# Altium integrated library Linear Technology PMIC-Switching Reg LTC1174-LTC3901.IntLib: 2647 symbols (part 146 of 310)
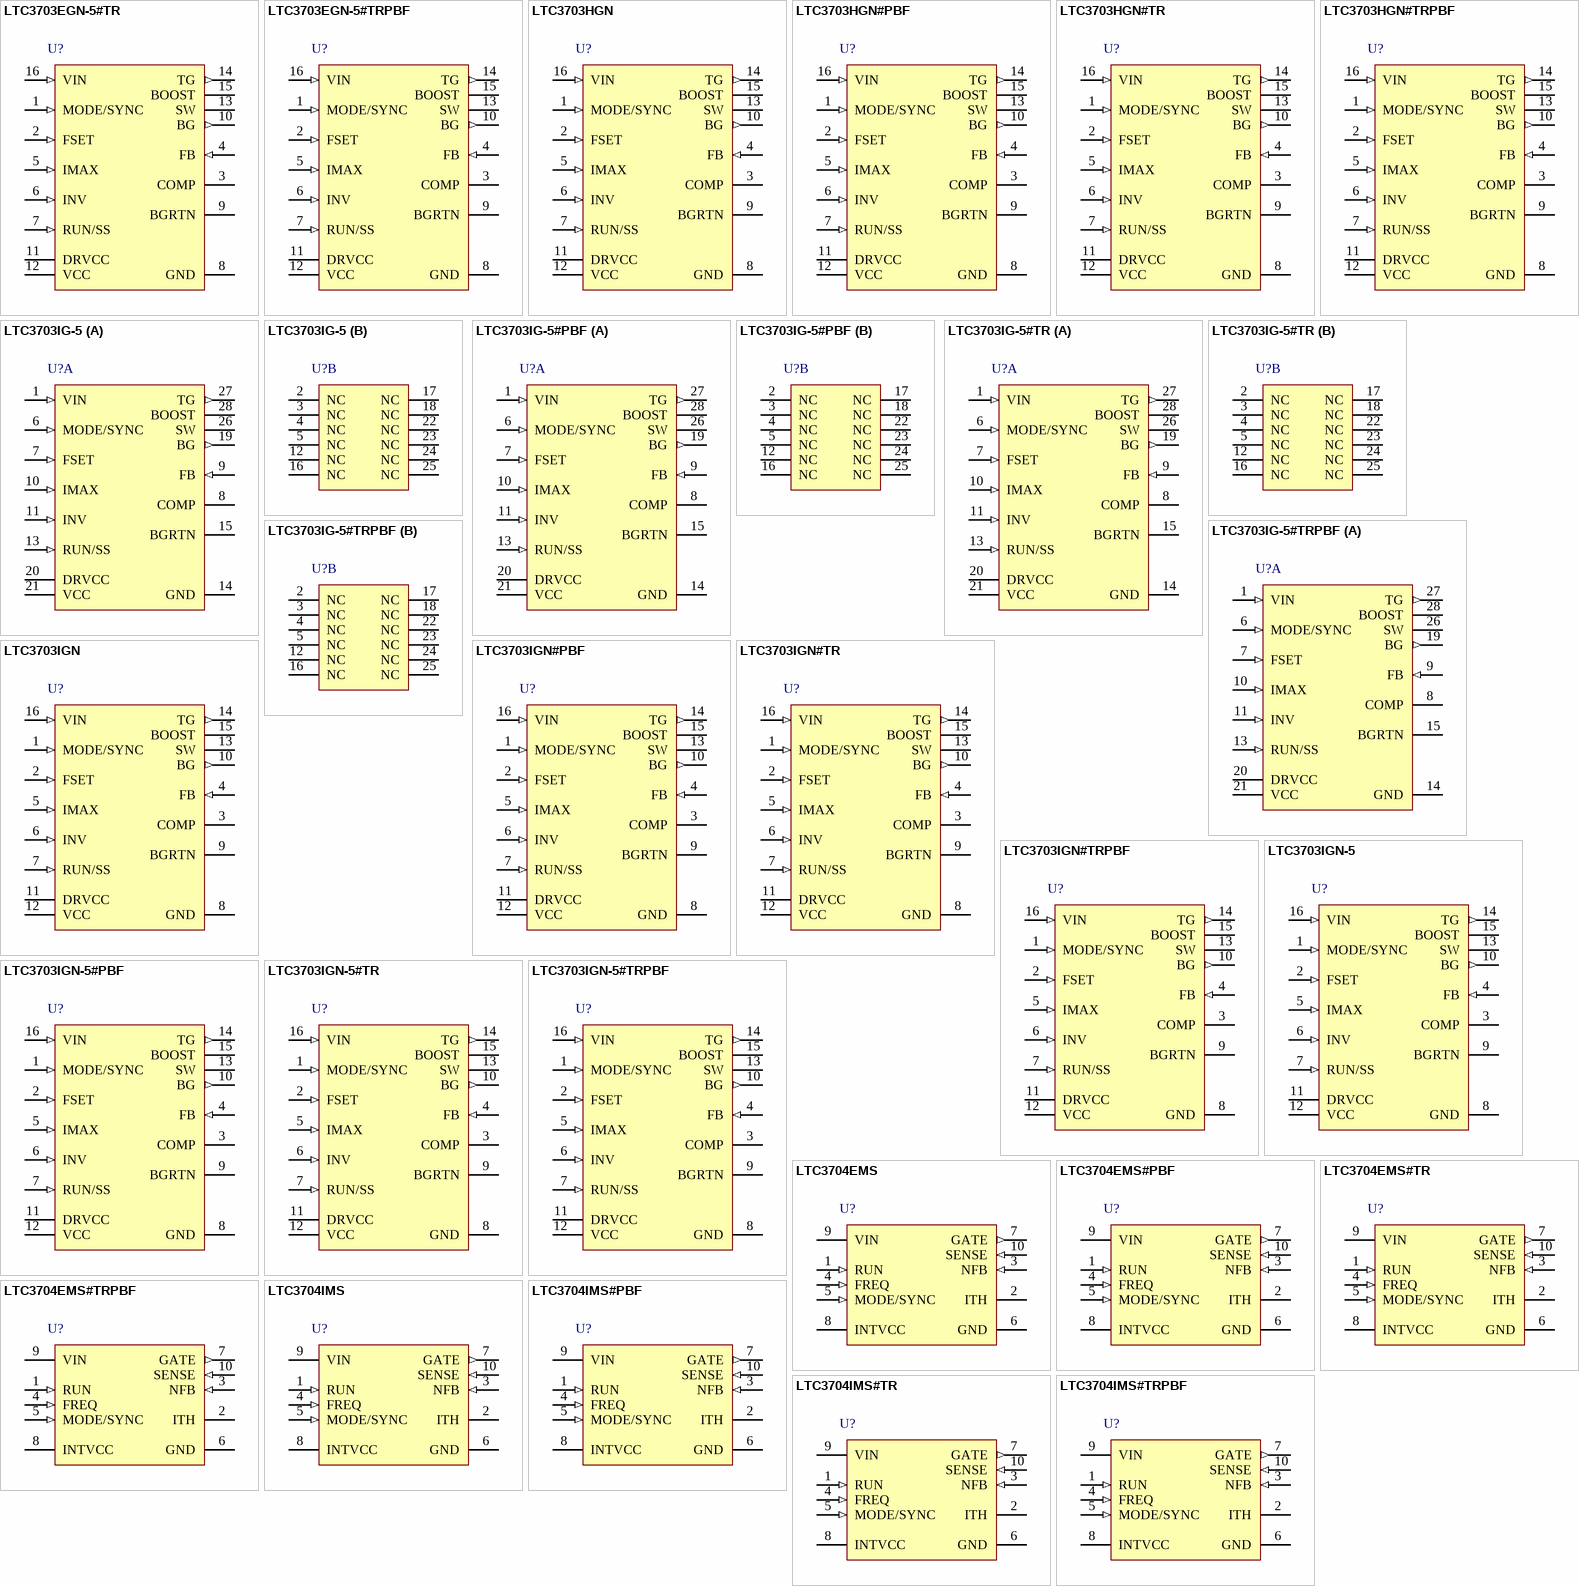
[diagram p198: symbols LTC3703EGN-5#TR to LTC3704IMS#TRPBF]

## LTC3704IMS#PBF
designator U?
Positive to Negative Converter, 10-pin SOP (MS-10), -40 to 125 degC, Pb-Free; Manufacturer: Linear Technology; PartNumber: LTC3704IMS#PBF; Number of Outputs: 1; PackageReference: MS-10; PackageDescription: 10-Pin Plastic MSOP, Body 3 x 3 mm, Pitch 0.5 mm; Supplier 1: Digi-Key; Supplier Part Number 1: LTC3704IMS#PBF-ND; RoHS: TRUE
footprint LT-MS-10_N (SOP, 10-Leads, Body 3.1x3.1mm, Pitch 0.5mm, IPC Medium Density)
footprint LT-MS-10_L (SOP, 10-Leads, Body 3.1x3.1mm, Pitch 0.5mm, IPC High Density)
footprint LT-MS-10_M (SOP, 10-Leads, Body 3.1x3.1mm, Pitch 0.5mm, IPC Low Density)
pins: 1 RUN (in) "The RUN pin provides the user with an accurate means for sensing the input voltage and programming the start-up threshold for the converter. The falling RUN pin threshold is nominally 1.248V and the comparator has 100mV of (See Datasheet)", 2 ITH "Error Amplifier Compensation Pin. The current comparator input threshold increases with this control voltage. Nominal voltage range for this pin is 0V to 1.40V.", 3 NFB (in) "Receives the feedback voltage from the external resistor divider across the output. Nominal voltage for this pin in regulation is -1.230V.", 4 FREQ (in) "A resistor from the FREQ pin to ground programs the operating frequency of the chip. The nominal voltage at the FREQ pin is 0.62V.", 5 MODE/SYNC (in) "This input controls the operating mode of the converter and allows for synchronizing the operating frequency to an external clock. If the MODE/SYNC pin is connected to ground, Burst Mode operation is enabled. If the (See Datasheet)", 6 GND (power) "Ground Pin.", 7 GATE (out) "Gate Driver Output.", 8 INTVCC (power) "The Internal 5.20V Regulator Output. The gate driver and control circuits are powered from this voltage. Decouple this pin locally to the IC ground with a minimum of 4.7uF low ESR tantalum or ceramic capacitor.", 9 VIN (power) "Main Supply Pin. Must be closely decoupled to ground.", 10 SENSE (in) "The Current Sense Input for the Control Loop. Connect this pin to the drain of the power MOSFET for VDS sensing and highest efficiency. Alternatively, the SENSE pin may be connected to a resistor in the source of the power (See Datasheet)"

## LTC3704IMS#TR
designator U?
Positive to Negative Converter, 10-pin SOP (MS-10), -40 to 125 degC, Tape and Reel; Manufacturer: Linear Technology; PartNumber: LTC3704IMS#TR; Number of Outputs: 1; PackageReference: MS-10; PackageDescription: 10-Pin Plastic MSOP, Body 3 x 3 mm, Pitch 0.5 mm; Supplier 1: Newark; Supplier Part Number 1: 56M8078; RoHS: FALSE
footprint LT-MS-10_N (SOP, 10-Leads, Body 3.1x3.1mm, Pitch 0.5mm, IPC Medium Density)
footprint LT-MS-10_L (SOP, 10-Leads, Body 3.1x3.1mm, Pitch 0.5mm, IPC High Density)
footprint LT-MS-10_M (SOP, 10-Leads, Body 3.1x3.1mm, Pitch 0.5mm, IPC Low Density)
pins: 1 RUN (in) "The RUN pin provides the user with an accurate means for sensing the input voltage and programming the start-up threshold for the converter. The falling RUN pin threshold is nominally 1.248V and the comparator has 100mV of (See Datasheet)", 2 ITH "Error Amplifier Compensation Pin. The current comparator input threshold increases with this control voltage. Nominal voltage range for this pin is 0V to 1.40V.", 3 NFB (in) "Receives the feedback voltage from the external resistor divider across the output. Nominal voltage for this pin in regulation is -1.230V.", 4 FREQ (in) "A resistor from the FREQ pin to ground programs the operating frequency of the chip. The nominal voltage at the FREQ pin is 0.62V.", 5 MODE/SYNC (in) "This input controls the operating mode of the converter and allows for synchronizing the operating frequency to an external clock. If the MODE/SYNC pin is connected to ground, Burst Mode operation is enabled. If the (See Datasheet)", 6 GND (power) "Ground Pin.", 7 GATE (out) "Gate Driver Output.", 8 INTVCC (power) "The Internal 5.20V Regulator Output. The gate driver and control circuits are powered from this voltage. Decouple this pin locally to the IC ground with a minimum of 4.7uF low ESR tantalum or ceramic capacitor.", 9 VIN (power) "Main Supply Pin. Must be closely decoupled to ground.", 10 SENSE (in) "The Current Sense Input for the Control Loop. Connect this pin to the drain of the power MOSFET for VDS sensing and highest efficiency. Alternatively, the SENSE pin may be connected to a resistor in the source of the power (See Datasheet)"

## LTC3704IMS#TRPBF
designator U?
Positive to Negative Converter, 10-pin SOP (MS-10), -40 to 125 degC, Pb-Free, Tape and Reel; Manufacturer: Linear Technology; PartNumber: LTC3704IMS#TRPBF; Number of Outputs: 1; PackageReference: MS-10; PackageDescription: 10-Pin Plastic MSOP, Body 3 x 3 mm, Pitch 0.5 mm; Supplier 1: Digi-Key; Supplier Part Number 1: LTC3704IMS#TRPBF-ND; RoHS: TRUE
footprint LT-MS-10_N (SOP, 10-Leads, Body 3.1x3.1mm, Pitch 0.5mm, IPC Medium Density)
footprint LT-MS-10_L (SOP, 10-Leads, Body 3.1x3.1mm, Pitch 0.5mm, IPC High Density)
footprint LT-MS-10_M (SOP, 10-Leads, Body 3.1x3.1mm, Pitch 0.5mm, IPC Low Density)
pins: 1 RUN (in) "The RUN pin provides the user with an accurate means for sensing the input voltage and programming the start-up threshold for the converter. The falling RUN pin threshold is nominally 1.248V and the comparator has 100mV of (See Datasheet)", 2 ITH "Error Amplifier Compensation Pin. The current comparator input threshold increases with this control voltage. Nominal voltage range for this pin is 0V to 1.40V.", 3 NFB (in) "Receives the feedback voltage from the external resistor divider across the output. Nominal voltage for this pin in regulation is -1.230V.", 4 FREQ (in) "A resistor from the FREQ pin to ground programs the operating frequency of the chip. The nominal voltage at the FREQ pin is 0.62V.", 5 MODE/SYNC (in) "This input controls the operating mode of the converter and allows for synchronizing the operating frequency to an external clock. If the MODE/SYNC pin is connected to ground, Burst Mode operation is enabled. If the (See Datasheet)", 6 GND (power) "Ground Pin.", 7 GATE (out) "Gate Driver Output.", 8 INTVCC (power) "The Internal 5.20V Regulator Output. The gate driver and control circuits are powered from this voltage. Decouple this pin locally to the IC ground with a minimum of 4.7uF low ESR tantalum or ceramic capacitor.", 9 VIN (power) "Main Supply Pin. Must be closely decoupled to ground.", 10 SENSE (in) "The Current Sense Input for the Control Loop. Connect this pin to the drain of the power MOSFET for VDS sensing and highest efficiency. Alternatively, the SENSE pin may be connected to a resistor in the source of the power (See Datasheet)"

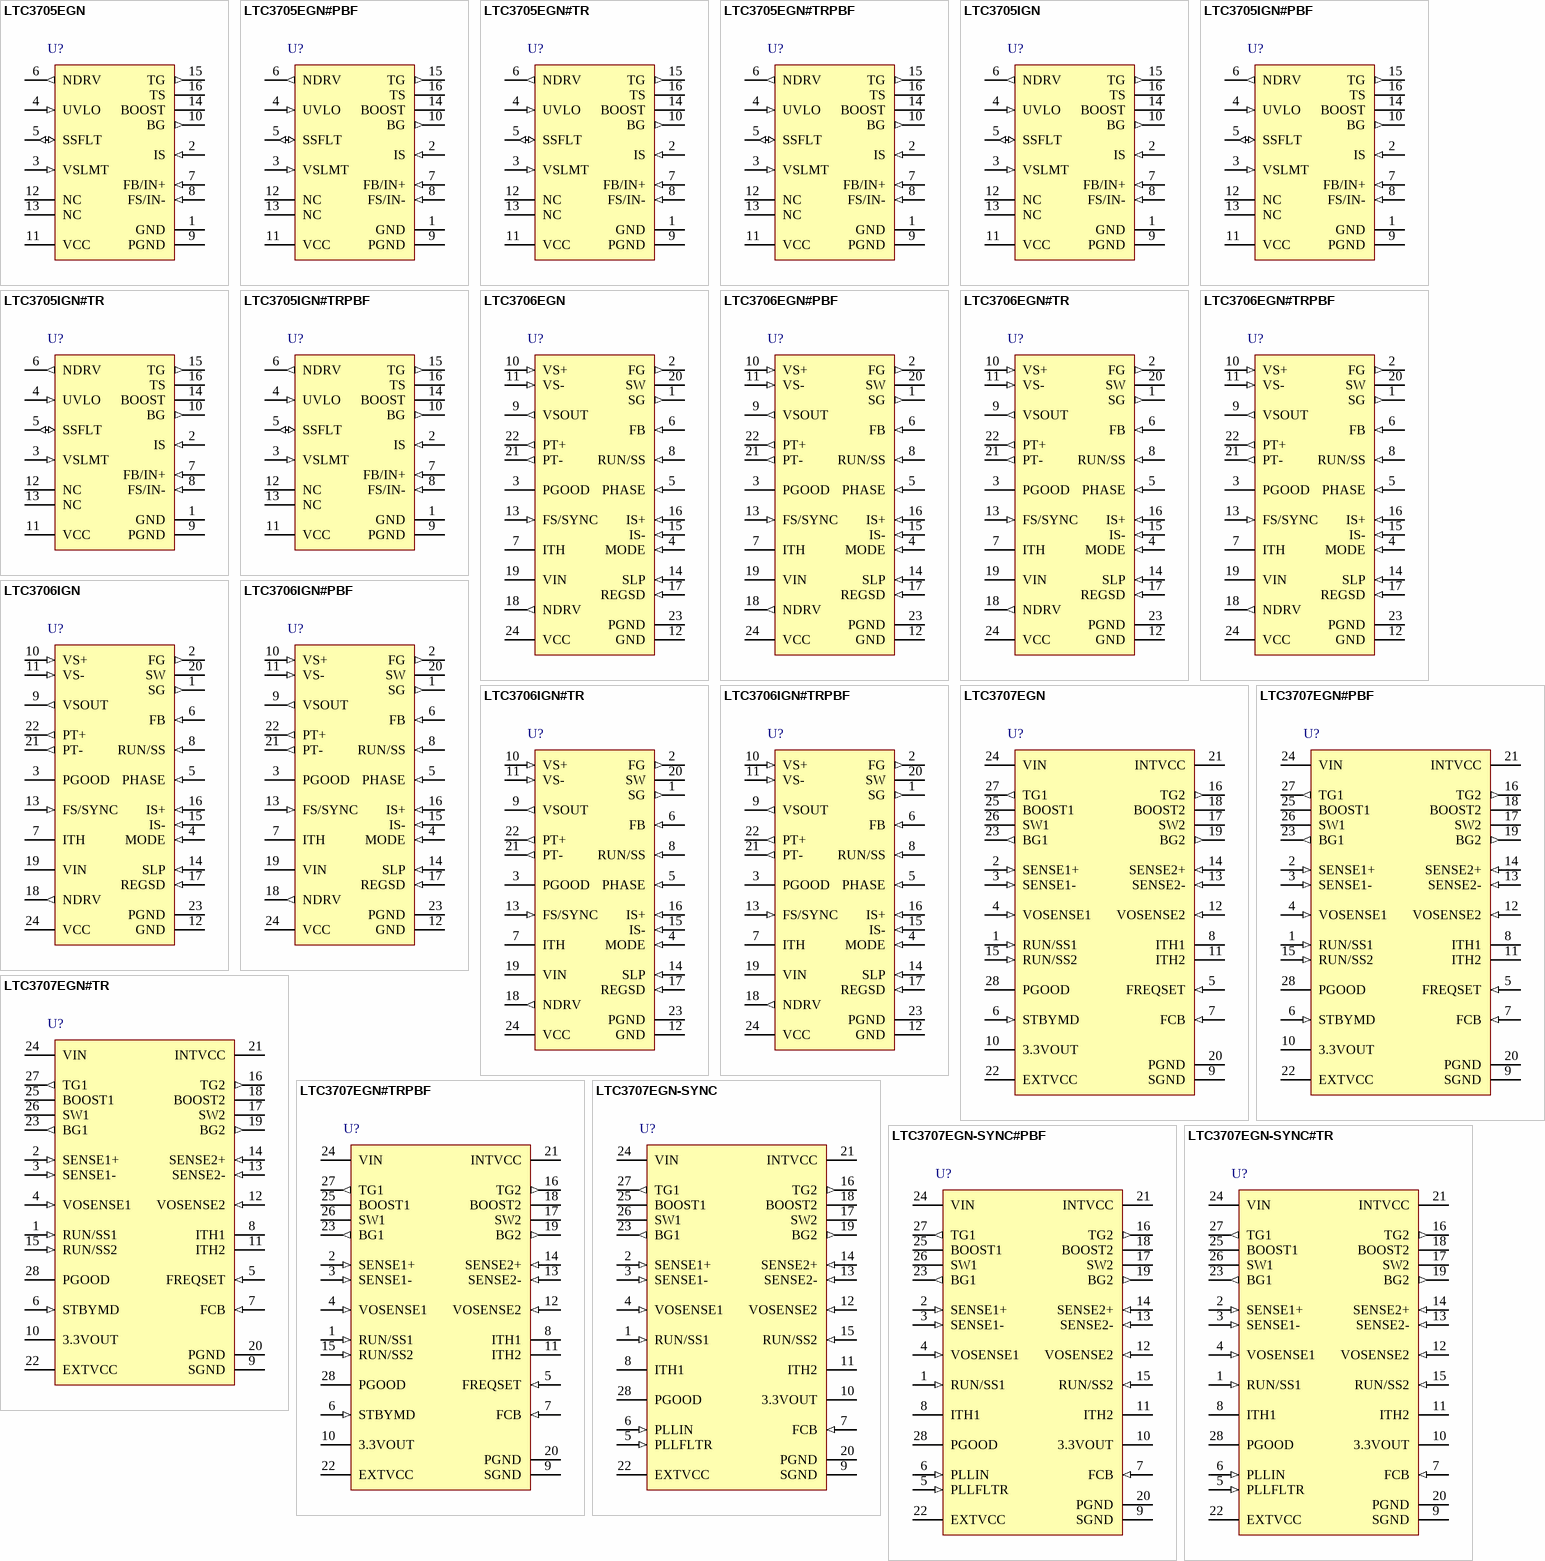
[diagram p52: symbols LTC3705EGN to LTC3707EGN-SYNC#TR]

## LTC3705EGN
designator U?
2-Switch Forward Controller and Gate Driver, 16-pin SOP (GN-16), -40 to 85 degC; Manufacturer: Linear Technology; PartNumber: LTC3705EGN; Number of Outputs: 1; PackageReference: GN-16; PackageDescription: 16-Pin Plastic SSOP, Body 4.9 x 3.9 mm, Pitch 0.635 mm; RoHS: FALSE
footprint LT-GN-16_N (SOP, 16-Leads, Body 5x4mm, Pitch 0.635mm, IPC Medium Density)
footprint LT-GN-16_L (SOP, 16-Leads, Body 5x4mm, Pitch 0.635mm, IPC High Density)
footprint LT-GN-16_M (SOP, 16-Leads, Body 5x4mm, Pitch 0.635mm, IPC Low Density)
pins: 1 GND (power) "Signal Ground.", 2 IS (in) "Input to the Overcurrent Comparator. Connect to the positive terminal of a current-sense resistor in series with the source of the ground-referenced bottom MOSFET.", 3 VSLMT (in) "Volt-Second Limit. Form an R-C integrator by connecting a resistor from VIN to VSLMT and a capacitor from VSLMT to ground. The gate drives are turned off when the voltage on the VSLMT pin exceeds 1.25V.", 4 UVLO (in) "Undervoltage Lockout. Connect to a resistive voltage divider to monitor input voltage VIN. Enables converter operation for VUVLO > 1.242V. Hysteresis is a fixed 16mV hysteresis voltage with a 4.9uA hysteresis current that (See Datasheet)", 5 SSFLT (io) "Combination Soft-Start and Fault Indicator. A capacitor to GND sets the duty cycle ramp-up rate during start-up. To indicate a fault, the SSFLT pin is momentarily pulled up to within 1.3V of VCC.", 6 NDRV (out) "Drive for the External NMOS of the Linear Regulator. Connect to the gate of the NMOS and connect a pull up resistor to the input voltage VIN. Optionally, to create a trickle charger omit the NMOS device and connect NDRV to (See Datasheet)", 7 FB/IN+ (in) "This pin has several functions. The two terminals of one pulse transformer winding are connected to the FB/IN+ and FS/IN- pins. The other pulse transformer winding is connected to the LTC3706. The LTC3705 automatically (See Datasheet)", 8 FS/IN- (in) "This pin has several functions. Place a resistor from this pin to GND to set the oscillator frequency. For secondary-side control with the LTC3706, connect one winding of the pulse transformer for operation as described for (See Datasheet)", 9 PGND (power) "Supply Return for the Bottom Gate Driver and the On-Chip Bridge Rectifier.", 10 BG (out) "Bottom Gate Driver. Connect to the gate of the “low side” external MOSFET.", 11 VCC (power) "Main VCC Power for All Driver and Control Circuitry.", 12 NC "Voltage Isolation Pins. No connection. Provided to allow adequate clearance between high-voltage pins (BOOST, TG, and TS) and the remainder of the pins.", 13 NC "Voltage Isolation Pins. No connection. Provided to allow adequate clearance between high-voltage pins (BOOST, TG, and TS) and the remainder of the pins.", 14 BOOST "Top Gate Driver Supply. Connect to VCC with a diode to supply power to the “high side” external MOSFET and bypass with a capacitor to TS.", 15 TG (out) "Top Gate Driver. Connect to the gate of the “high side” external MOSFET.", 16 TS (power) "Supply Return for the Top Gate Driver. Connect to the source of the “high side” external MOSFET."

## LTC3705EGN#PBF
designator U?
2-Switch Forward Controller and Gate Driver, 16-pin SOP (GN-16), -40 to 85 degC, Pb-Free; Manufacturer: Linear Technology; PartNumber: LTC3705EGN#PBF; Number of Outputs: 1; PackageReference: GN-16; PackageDescription: 16-Pin Plastic SSOP, Body 4.9 x 3.9 mm, Pitch 0.635 mm; Supplier 1: Digi-Key; Supplier Part Number 1: LTC3705EGN#PBF-ND; RoHS: TRUE
footprint LT-GN-16_N (SOP, 16-Leads, Body 5x4mm, Pitch 0.635mm, IPC Medium Density)
footprint LT-GN-16_L (SOP, 16-Leads, Body 5x4mm, Pitch 0.635mm, IPC High Density)
footprint LT-GN-16_M (SOP, 16-Leads, Body 5x4mm, Pitch 0.635mm, IPC Low Density)
pins: 1 GND (power) "Signal Ground.", 2 IS (in) "Input to the Overcurrent Comparator. Connect to the positive terminal of a current-sense resistor in series with the source of the ground-referenced bottom MOSFET.", 3 VSLMT (in) "Volt-Second Limit. Form an R-C integrator by connecting a resistor from VIN to VSLMT and a capacitor from VSLMT to ground. The gate drives are turned off when the voltage on the VSLMT pin exceeds 1.25V.", 4 UVLO (in) "Undervoltage Lockout. Connect to a resistive voltage divider to monitor input voltage VIN. Enables converter operation for VUVLO > 1.242V. Hysteresis is a fixed 16mV hysteresis voltage with a 4.9uA hysteresis current that (See Datasheet)", 5 SSFLT (io) "Combination Soft-Start and Fault Indicator. A capacitor to GND sets the duty cycle ramp-up rate during start-up. To indicate a fault, the SSFLT pin is momentarily pulled up to within 1.3V of VCC.", 6 NDRV (out) "Drive for the External NMOS of the Linear Regulator. Connect to the gate of the NMOS and connect a pull up resistor to the input voltage VIN. Optionally, to create a trickle charger omit the NMOS device and connect NDRV to (See Datasheet)", 7 FB/IN+ (in) "This pin has several functions. The two terminals of one pulse transformer winding are connected to the FB/IN+ and FS/IN- pins. The other pulse transformer winding is connected to the LTC3706. The LTC3705 automatically (See Datasheet)", 8 FS/IN- (in) "This pin has several functions. Place a resistor from this pin to GND to set the oscillator frequency. For secondary-side control with the LTC3706, connect one winding of the pulse transformer for operation as described for (See Datasheet)", 9 PGND (power) "Supply Return for the Bottom Gate Driver and the On-Chip Bridge Rectifier.", 10 BG (out) "Bottom Gate Driver. Connect to the gate of the “low side” external MOSFET.", 11 VCC (power) "Main VCC Power for All Driver and Control Circuitry.", 12 NC "Voltage Isolation Pins. No connection. Provided to allow adequate clearance between high-voltage pins (BOOST, TG, and TS) and the remainder of the pins.", 13 NC "Voltage Isolation Pins. No connection. Provided to allow adequate clearance between high-voltage pins (BOOST, TG, and TS) and the remainder of the pins.", 14 BOOST "Top Gate Driver Supply. Connect to VCC with a diode to supply power to the “high side” external MOSFET and bypass with a capacitor to TS.", 15 TG (out) "Top Gate Driver. Connect to the gate of the “high side” external MOSFET.", 16 TS (power) "Supply Return for the Top Gate Driver. Connect to the source of the “high side” external MOSFET."

## LTC3705EGN#TR
designator U?
2-Switch Forward Controller and Gate Driver, 16-pin SOP (GN-16), -40 to 85 degC, Tape and Reel; Manufacturer: Linear Technology; PartNumber: LTC3705EGN#TR; Number of Outputs: 1; PackageReference: GN-16; PackageDescription: 16-Pin Plastic SSOP, Body 4.9 x 3.9 mm, Pitch 0.635 mm; RoHS: FALSE
footprint LT-GN-16_N (SOP, 16-Leads, Body 5x4mm, Pitch 0.635mm, IPC Medium Density)
footprint LT-GN-16_L (SOP, 16-Leads, Body 5x4mm, Pitch 0.635mm, IPC High Density)
footprint LT-GN-16_M (SOP, 16-Leads, Body 5x4mm, Pitch 0.635mm, IPC Low Density)
pins: 1 GND (power) "Signal Ground.", 2 IS (in) "Input to the Overcurrent Comparator. Connect to the positive terminal of a current-sense resistor in series with the source of the ground-referenced bottom MOSFET.", 3 VSLMT (in) "Volt-Second Limit. Form an R-C integrator by connecting a resistor from VIN to VSLMT and a capacitor from VSLMT to ground. The gate drives are turned off when the voltage on the VSLMT pin exceeds 1.25V.", 4 UVLO (in) "Undervoltage Lockout. Connect to a resistive voltage divider to monitor input voltage VIN. Enables converter operation for VUVLO > 1.242V. Hysteresis is a fixed 16mV hysteresis voltage with a 4.9uA hysteresis current that (See Datasheet)", 5 SSFLT (io) "Combination Soft-Start and Fault Indicator. A capacitor to GND sets the duty cycle ramp-up rate during start-up. To indicate a fault, the SSFLT pin is momentarily pulled up to within 1.3V of VCC.", 6 NDRV (out) "Drive for the External NMOS of the Linear Regulator. Connect to the gate of the NMOS and connect a pull up resistor to the input voltage VIN. Optionally, to create a trickle charger omit the NMOS device and connect NDRV to (See Datasheet)", 7 FB/IN+ (in) "This pin has several functions. The two terminals of one pulse transformer winding are connected to the FB/IN+ and FS/IN- pins. The other pulse transformer winding is connected to the LTC3706. The LTC3705 automatically (See Datasheet)", 8 FS/IN- (in) "This pin has several functions. Place a resistor from this pin to GND to set the oscillator frequency. For secondary-side control with the LTC3706, connect one winding of the pulse transformer for operation as described for (See Datasheet)", 9 PGND (power) "Supply Return for the Bottom Gate Driver and the On-Chip Bridge Rectifier.", 10 BG (out) "Bottom Gate Driver. Connect to the gate of the “low side” external MOSFET.", 11 VCC (power) "Main VCC Power for All Driver and Control Circuitry.", 12 NC "Voltage Isolation Pins. No connection. Provided to allow adequate clearance between high-voltage pins (BOOST, TG, and TS) and the remainder of the pins.", 13 NC "Voltage Isolation Pins. No connection. Provided to allow adequate clearance between high-voltage pins (BOOST, TG, and TS) and the remainder of the pins.", 14 BOOST "Top Gate Driver Supply. Connect to VCC with a diode to supply power to the “high side” external MOSFET and bypass with a capacitor to TS.", 15 TG (out) "Top Gate Driver. Connect to the gate of the “high side” external MOSFET.", 16 TS (power) "Supply Return for the Top Gate Driver. Connect to the source of the “high side” external MOSFET."

## LTC3705EGN#TRPBF
designator U?
2-Switch Forward Controller and Gate Driver, 16-pin SOP (GN-16), -40 to 85 degC, Pb-Free, Tape and Reel; Manufacturer: Linear Technology; PartNumber: LTC3705EGN#TRPBF; Number of Outputs: 1; PackageReference: GN-16; PackageDescription: 16-Pin Plastic SSOP, Body 4.9 x 3.9 mm, Pitch 0.635 mm; Supplier 1: Digi-Key; Supplier Part Number 1: LTC3705EGN#TRPBF-ND; RoHS: TRUE
footprint LT-GN-16_N (SOP, 16-Leads, Body 5x4mm, Pitch 0.635mm, IPC Medium Density)
footprint LT-GN-16_L (SOP, 16-Leads, Body 5x4mm, Pitch 0.635mm, IPC High Density)
footprint LT-GN-16_M (SOP, 16-Leads, Body 5x4mm, Pitch 0.635mm, IPC Low Density)
pins: 1 GND (power) "Signal Ground.", 2 IS (in) "Input to the Overcurrent Comparator. Connect to the positive terminal of a current-sense resistor in series with the source of the ground-referenced bottom MOSFET.", 3 VSLMT (in) "Volt-Second Limit. Form an R-C integrator by connecting a resistor from VIN to VSLMT and a capacitor from VSLMT to ground. The gate drives are turned off when the voltage on the VSLMT pin exceeds 1.25V.", 4 UVLO (in) "Undervoltage Lockout. Connect to a resistive voltage divider to monitor input voltage VIN. Enables converter operation for VUVLO > 1.242V. Hysteresis is a fixed 16mV hysteresis voltage with a 4.9uA hysteresis current that (See Datasheet)", 5 SSFLT (io) "Combination Soft-Start and Fault Indicator. A capacitor to GND sets the duty cycle ramp-up rate during start-up. To indicate a fault, the SSFLT pin is momentarily pulled up to within 1.3V of VCC.", 6 NDRV (out) "Drive for the External NMOS of the Linear Regulator. Connect to the gate of the NMOS and connect a pull up resistor to the input voltage VIN. Optionally, to create a trickle charger omit the NMOS device and connect NDRV to (See Datasheet)", 7 FB/IN+ (in) "This pin has several functions. The two terminals of one pulse transformer winding are connected to the FB/IN+ and FS/IN- pins. The other pulse transformer winding is connected to the LTC3706. The LTC3705 automatically (See Datasheet)", 8 FS/IN- (in) "This pin has several functions. Place a resistor from this pin to GND to set the oscillator frequency. For secondary-side control with the LTC3706, connect one winding of the pulse transformer for operation as described for (See Datasheet)", 9 PGND (power) "Supply Return for the Bottom Gate Driver and the On-Chip Bridge Rectifier.", 10 BG (out) "Bottom Gate Driver. Connect to the gate of the “low side” external MOSFET.", 11 VCC (power) "Main VCC Power for All Driver and Control Circuitry.", 12 NC "Voltage Isolation Pins. No connection. Provided to allow adequate clearance between high-voltage pins (BOOST, TG, and TS) and the remainder of the pins.", 13 NC "Voltage Isolation Pins. No connection. Provided to allow adequate clearance between high-voltage pins (BOOST, TG, and TS) and the remainder of the pins.", 14 BOOST "Top Gate Driver Supply. Connect to VCC with a diode to supply power to the “high side” external MOSFET and bypass with a capacitor to TS.", 15 TG (out) "Top Gate Driver. Connect to the gate of the “high side” external MOSFET.", 16 TS (power) "Supply Return for the Top Gate Driver. Connect to the source of the “high side” external MOSFET."

## LTC3705IGN
designator U?
2-Switch Forward Controller and Gate Driver, 16-pin SOP (GN-16), -40 to 85 degC; Manufacturer: Linear Technology; PartNumber: LTC3705IGN; Number of Outputs: 1; PackageReference: GN-16; PackageDescription: 16-Pin Plastic SSOP, Body 4.9 x 3.9 mm, Pitch 0.635 mm; Supplier 1: Newark; Supplier Part Number 1: 56M8084; RoHS: FALSE
footprint LT-GN-16_N (SOP, 16-Leads, Body 5x4mm, Pitch 0.635mm, IPC Medium Density)
footprint LT-GN-16_L (SOP, 16-Leads, Body 5x4mm, Pitch 0.635mm, IPC High Density)
footprint LT-GN-16_M (SOP, 16-Leads, Body 5x4mm, Pitch 0.635mm, IPC Low Density)
pins: 1 GND (power) "Signal Ground.", 2 IS (in) "Input to the Overcurrent Comparator. Connect to the positive terminal of a current-sense resistor in series with the source of the ground-referenced bottom MOSFET.", 3 VSLMT (in) "Volt-Second Limit. Form an R-C integrator by connecting a resistor from VIN to VSLMT and a capacitor from VSLMT to ground. The gate drives are turned off when the voltage on the VSLMT pin exceeds 1.25V.", 4 UVLO (in) "Undervoltage Lockout. Connect to a resistive voltage divider to monitor input voltage VIN. Enables converter operation for VUVLO > 1.242V. Hysteresis is a fixed 16mV hysteresis voltage with a 4.9uA hysteresis current that (See Datasheet)", 5 SSFLT (io) "Combination Soft-Start and Fault Indicator. A capacitor to GND sets the duty cycle ramp-up rate during start-up. To indicate a fault, the SSFLT pin is momentarily pulled up to within 1.3V of VCC.", 6 NDRV (out) "Drive for the External NMOS of the Linear Regulator. Connect to the gate of the NMOS and connect a pull up resistor to the input voltage VIN. Optionally, to create a trickle charger omit the NMOS device and connect NDRV to (See Datasheet)", 7 FB/IN+ (in) "This pin has several functions. The two terminals of one pulse transformer winding are connected to the FB/IN+ and FS/IN- pins. The other pulse transformer winding is connected to the LTC3706. The LTC3705 automatically (See Datasheet)", 8 FS/IN- (in) "This pin has several functions. Place a resistor from this pin to GND to set the oscillator frequency. For secondary-side control with the LTC3706, connect one winding of the pulse transformer for operation as described for (See Datasheet)", 9 PGND (power) "Supply Return for the Bottom Gate Driver and the On-Chip Bridge Rectifier.", 10 BG (out) "Bottom Gate Driver. Connect to the gate of the “low side” external MOSFET.", 11 VCC (power) "Main VCC Power for All Driver and Control Circuitry.", 12 NC "Voltage Isolation Pins. No connection. Provided to allow adequate clearance between high-voltage pins (BOOST, TG, and TS) and the remainder of the pins.", 13 NC "Voltage Isolation Pins. No connection. Provided to allow adequate clearance between high-voltage pins (BOOST, TG, and TS) and the remainder of the pins.", 14 BOOST "Top Gate Driver Supply. Connect to VCC with a diode to supply power to the “high side” external MOSFET and bypass with a capacitor to TS.", 15 TG (out) "Top Gate Driver. Connect to the gate of the “high side” external MOSFET.", 16 TS (power) "Supply Return for the Top Gate Driver. Connect to the source of the “high side” external MOSFET."

## LTC3705IGN#PBF
designator U?
2-Switch Forward Controller and Gate Driver, 16-pin SOP (GN-16), -40 to 85 degC, Pb-Free; Manufacturer: Linear Technology; PartNumber: LTC3705IGN#PBF; Number of Outputs: 1; PackageReference: GN-16; PackageDescription: 16-Pin Plastic SSOP, Body 4.9 x 3.9 mm, Pitch 0.635 mm; Supplier 1: Digi-Key; Supplier Part Number 1: LTC3705IGN#PBF-ND; RoHS: TRUE
footprint LT-GN-16_N (SOP, 16-Leads, Body 5x4mm, Pitch 0.635mm, IPC Medium Density)
footprint LT-GN-16_L (SOP, 16-Leads, Body 5x4mm, Pitch 0.635mm, IPC High Density)
footprint LT-GN-16_M (SOP, 16-Leads, Body 5x4mm, Pitch 0.635mm, IPC Low Density)
pins: 1 GND (power) "Signal Ground.", 2 IS (in) "Input to the Overcurrent Comparator. Connect to the positive terminal of a current-sense resistor in series with the source of the ground-referenced bottom MOSFET.", 3 VSLMT (in) "Volt-Second Limit. Form an R-C integrator by connecting a resistor from VIN to VSLMT and a capacitor from VSLMT to ground. The gate drives are turned off when the voltage on the VSLMT pin exceeds 1.25V.", 4 UVLO (in) "Undervoltage Lockout. Connect to a resistive voltage divider to monitor input voltage VIN. Enables converter operation for VUVLO > 1.242V. Hysteresis is a fixed 16mV hysteresis voltage with a 4.9uA hysteresis current that (See Datasheet)", 5 SSFLT (io) "Combination Soft-Start and Fault Indicator. A capacitor to GND sets the duty cycle ramp-up rate during start-up. To indicate a fault, the SSFLT pin is momentarily pulled up to within 1.3V of VCC.", 6 NDRV (out) "Drive for the External NMOS of the Linear Regulator. Connect to the gate of the NMOS and connect a pull up resistor to the input voltage VIN. Optionally, to create a trickle charger omit the NMOS device and connect NDRV to (See Datasheet)", 7 FB/IN+ (in) "This pin has several functions. The two terminals of one pulse transformer winding are connected to the FB/IN+ and FS/IN- pins. The other pulse transformer winding is connected to the LTC3706. The LTC3705 automatically (See Datasheet)", 8 FS/IN- (in) "This pin has several functions. Place a resistor from this pin to GND to set the oscillator frequency. For secondary-side control with the LTC3706, connect one winding of the pulse transformer for operation as described for (See Datasheet)", 9 PGND (power) "Supply Return for the Bottom Gate Driver and the On-Chip Bridge Rectifier.", 10 BG (out) "Bottom Gate Driver. Connect to the gate of the “low side” external MOSFET.", 11 VCC (power) "Main VCC Power for All Driver and Control Circuitry.", 12 NC "Voltage Isolation Pins. No connection. Provided to allow adequate clearance between high-voltage pins (BOOST, TG, and TS) and the remainder of the pins.", 13 NC "Voltage Isolation Pins. No connection. Provided to allow adequate clearance between high-voltage pins (BOOST, TG, and TS) and the remainder of the pins.", 14 BOOST "Top Gate Driver Supply. Connect to VCC with a diode to supply power to the “high side” external MOSFET and bypass with a capacitor to TS.", 15 TG (out) "Top Gate Driver. Connect to the gate of the “high side” external MOSFET.", 16 TS (power) "Supply Return for the Top Gate Driver. Connect to the source of the “high side” external MOSFET."

## LTC3705IGN#TR
designator U?
2-Switch Forward Controller and Gate Driver, 16-pin SOP (GN-16), -40 to 85 degC, Tape and Reel; Manufacturer: Linear Technology; PartNumber: LTC3705IGN#TR; Number of Outputs: 1; PackageReference: GN-16; PackageDescription: 16-Pin Plastic SSOP, Body 4.9 x 3.9 mm, Pitch 0.635 mm; RoHS: FALSE
footprint LT-GN-16_N (SOP, 16-Leads, Body 5x4mm, Pitch 0.635mm, IPC Medium Density)
footprint LT-GN-16_L (SOP, 16-Leads, Body 5x4mm, Pitch 0.635mm, IPC High Density)
footprint LT-GN-16_M (SOP, 16-Leads, Body 5x4mm, Pitch 0.635mm, IPC Low Density)
pins: 1 GND (power) "Signal Ground.", 2 IS (in) "Input to the Overcurrent Comparator. Connect to the positive terminal of a current-sense resistor in series with the source of the ground-referenced bottom MOSFET.", 3 VSLMT (in) "Volt-Second Limit. Form an R-C integrator by connecting a resistor from VIN to VSLMT and a capacitor from VSLMT to ground. The gate drives are turned off when the voltage on the VSLMT pin exceeds 1.25V.", 4 UVLO (in) "Undervoltage Lockout. Connect to a resistive voltage divider to monitor input voltage VIN. Enables converter operation for VUVLO > 1.242V. Hysteresis is a fixed 16mV hysteresis voltage with a 4.9uA hysteresis current that (See Datasheet)", 5 SSFLT (io) "Combination Soft-Start and Fault Indicator. A capacitor to GND sets the duty cycle ramp-up rate during start-up. To indicate a fault, the SSFLT pin is momentarily pulled up to within 1.3V of VCC.", 6 NDRV (out) "Drive for the External NMOS of the Linear Regulator. Connect to the gate of the NMOS and connect a pull up resistor to the input voltage VIN. Optionally, to create a trickle charger omit the NMOS device and connect NDRV to (See Datasheet)", 7 FB/IN+ (in) "This pin has several functions. The two terminals of one pulse transformer winding are connected to the FB/IN+ and FS/IN- pins. The other pulse transformer winding is connected to the LTC3706. The LTC3705 automatically (See Datasheet)", 8 FS/IN- (in) "This pin has several functions. Place a resistor from this pin to GND to set the oscillator frequency. For secondary-side control with the LTC3706, connect one winding of the pulse transformer for operation as described for (See Datasheet)", 9 PGND (power) "Supply Return for the Bottom Gate Driver and the On-Chip Bridge Rectifier.", 10 BG (out) "Bottom Gate Driver. Connect to the gate of the “low side” external MOSFET.", 11 VCC (power) "Main VCC Power for All Driver and Control Circuitry.", 12 NC "Voltage Isolation Pins. No connection. Provided to allow adequate clearance between high-voltage pins (BOOST, TG, and TS) and the remainder of the pins.", 13 NC "Voltage Isolation Pins. No connection. Provided to allow adequate clearance between high-voltage pins (BOOST, TG, and TS) and the remainder of the pins.", 14 BOOST "Top Gate Driver Supply. Connect to VCC with a diode to supply power to the “high side” external MOSFET and bypass with a capacitor to TS.", 15 TG (out) "Top Gate Driver. Connect to the gate of the “high side” external MOSFET.", 16 TS (power) "Supply Return for the Top Gate Driver. Connect to the source of the “high side” external MOSFET."

## LTC3705IGN#TRPBF
designator U?
2-Switch Forward Controller and Gate Driver, 16-pin SOP (GN-16), -40 to 85 degC, Pb-Free, Tape and Reel; Manufacturer: Linear Technology; PartNumber: LTC3705IGN#TRPBF; Number of Outputs: 1; PackageReference: GN-16; PackageDescription: 16-Pin Plastic SSOP, Body 4.9 x 3.9 mm, Pitch 0.635 mm; Supplier 1: Digi-Key; Supplier Part Number 1: LTC3705IGN#TRPBF-ND; RoHS: TRUE
footprint LT-GN-16_N (SOP, 16-Leads, Body 5x4mm, Pitch 0.635mm, IPC Medium Density)
footprint LT-GN-16_L (SOP, 16-Leads, Body 5x4mm, Pitch 0.635mm, IPC High Density)
footprint LT-GN-16_M (SOP, 16-Leads, Body 5x4mm, Pitch 0.635mm, IPC Low Density)
pins: 1 GND (power) "Signal Ground.", 2 IS (in) "Input to the Overcurrent Comparator. Connect to the positive terminal of a current-sense resistor in series with the source of the ground-referenced bottom MOSFET.", 3 VSLMT (in) "Volt-Second Limit. Form an R-C integrator by connecting a resistor from VIN to VSLMT and a capacitor from VSLMT to ground. The gate drives are turned off when the voltage on the VSLMT pin exceeds 1.25V.", 4 UVLO (in) "Undervoltage Lockout. Connect to a resistive voltage divider to monitor input voltage VIN. Enables converter operation for VUVLO > 1.242V. Hysteresis is a fixed 16mV hysteresis voltage with a 4.9uA hysteresis current that (See Datasheet)", 5 SSFLT (io) "Combination Soft-Start and Fault Indicator. A capacitor to GND sets the duty cycle ramp-up rate during start-up. To indicate a fault, the SSFLT pin is momentarily pulled up to within 1.3V of VCC.", 6 NDRV (out) "Drive for the External NMOS of the Linear Regulator. Connect to the gate of the NMOS and connect a pull up resistor to the input voltage VIN. Optionally, to create a trickle charger omit the NMOS device and connect NDRV to (See Datasheet)", 7 FB/IN+ (in) "This pin has several functions. The two terminals of one pulse transformer winding are connected to the FB/IN+ and FS/IN- pins. The other pulse transformer winding is connected to the LTC3706. The LTC3705 automatically (See Datasheet)", 8 FS/IN- (in) "This pin has several functions. Place a resistor from this pin to GND to set the oscillator frequency. For secondary-side control with the LTC3706, connect one winding of the pulse transformer for operation as described for (See Datasheet)", 9 PGND (power) "Supply Return for the Bottom Gate Driver and the On-Chip Bridge Rectifier.", 10 BG (out) "Bottom Gate Driver. Connect to the gate of the “low side” external MOSFET.", 11 VCC (power) "Main VCC Power for All Driver and Control Circuitry.", 12 NC "Voltage Isolation Pins. No connection. Provided to allow adequate clearance between high-voltage pins (BOOST, TG, and TS) and the remainder of the pins.", 13 NC "Voltage Isolation Pins. No connection. Provided to allow adequate clearance between high-voltage pins (BOOST, TG, and TS) and the remainder of the pins.", 14 BOOST "Top Gate Driver Supply. Connect to VCC with a diode to supply power to the “high side” external MOSFET and bypass with a capacitor to TS.", 15 TG (out) "Top Gate Driver. Connect to the gate of the “high side” external MOSFET.", 16 TS (power) "Supply Return for the Top Gate Driver. Connect to the source of the “high side” external MOSFET."

## LTC3706EGN
designator U?
Secondary-Side Synchronous Forward Controller with Polyphase Capability, 24-pin SOP (GN-24), -40 to 85 degC; Manufacturer: Linear Technology; PartNumber: LTC3706EGN; Number of Outputs: 1; PackageReference: GN24; PackageDescription: 24-Pin Plastic SSOP , Body 8.5 x 3.9 mm, Pitch 0.635 mm; RoHS: FALSE
footprint LT-GN-24_N (SOP, 24-Leads, Body 8.7x4mm, Pitch 0.635mm, IPC Medium Density)
footprint LT-GN-24_L (SOP, 24-Leads, Body 8.7x4mm, Pitch 0.635mm, IPC High Density)
footprint LT-GN-24_M (SOP, 24-Leads, Body 8.7x4mm, Pitch 0.635mm, IPC Low Density)
pins: 1 SG (out) "Gate Drive for the “Synchronous” MOSFET.", 2 FG (out) "Gate Drive for the “Forward” MOSFET.", 3 PGOOD (oc) "Open-Drain Power Good Output. The FB pin is monitored to ensure that the output is in regulation. When the output is not in regulation, the PGOOD pin is pulled low.", 4 MODE (in) "Tie to either GND or VCC to set the maximum duty cycle at either 50% or 75% respectively. Tie to ground through either a 200k or 100k resistor (50% or 75% maximum duty cycle) to disable pulse encoding. In this mode, normal (See Datasheet)", 5 PHASE (in) "Control Input to the Phase Selector. This pin determines the phasing of the controller CLK relative to the synchronizing signal at the FS/SYNC pin.", 6 FB (in) "The Inverting Input of the Main Loop Error Amplifier.", 7 ITH "The Output of the Main Loop Error Amplifier. Place compensation components between the ITH pin and GND.", 8 RUN/SS (in) "Combination Run Control and Soft-Start Inputs. A capacitor to ground sets the ramp time of the output voltage. Holding this pin below 0.4V causes the IC to shut down all internal circuitry.", 9 VSOUT (out) "VSOUT is the output of a precision, unity-gain differential amplifier. Tie VS+ and  VS- to the output of the main DC/DC converter to achieve true remote differential sensing. This allows DCR error effects to be minimized.", 10 VS+ (in) "VSOUT is the output of a precision, unity-gain differential amplifier. Tie VS+ and  VS- to the output of the main DC/DC converter to achieve true remote differential sensing. This allows DCR error effects to be minimized.", 11 VS- (in) "VSOUT is the output of a precision, unity-gain differential amplifier. Tie VS+ and  VS- to the output of the main DC/DC converter to achieve true remote differential sensing. This allows DCR error effects to be minimized.", 12 GND (power) "Signal Ground.", 13 FS/SYNC (in) "Combination Frequency Set and SYNC pin. Tie to GND or VCC to run at 200kHz and 300kHz respectively. Place a single resistor to ground at this pin to set the frequency between 100kHz and 500kHz. To synchronize, drive this pin (See Datasheet)", 14 SLP (in) "Slope Compensation Input. Place a single resistor to ground to set the desired amount of slope compensation.", 15 IS- (in) "Negative Input to the Current Sense Circuit. When using current sense transformers, this pin may be tied to VCC for single-ended sensing with a 1.28V maximum current trip level.", 16 IS+ (in) "Positive Input to the Current Sense Circuit. Connect to the positive end of a current sense resistor or to the output of a current sense transformer.", 17 REGSD (in) "This pin is used to prevent overheating of the external linear regulator pass device that generates the VCC supply voltage from the VIN voltage. A current proportional to the voltage across the external pass device flows out (See Datasheet)", 18 NDRV (out) "Drive Output for the External Pass Device of the VCC Linear Regulator. Connect to the base (NPN) or gate (NMOS) of an external N-type device.", 19 VIN (power) "Connect to a higher voltage bias supply, typically the output of a peak detected bias winding. When not used, tie together with the VCC and NDRV pins.", 20 SW "Connect to the drain of the “synchronous” MOSFET. This input is used for adaptive shoot-through prevention and leading edge blanking.", 21 PT- (out) "Pulse Transformer Driver Outputs. For most applications, these connect to a pulse transformer (with a series DC blocking capacitor). The PWM information is multiplexed together with DC power and sent through a single pulse (See Datasheet)", 22 PT+ (out) "Pulse Transformer Driver Outputs. For most applications, these connect to a pulse transformer (with a series DC blocking capacitor). The PWM information is multiplexed together with DC power and sent through a single pulse (See Datasheet)", 23 PGND (power) "Gate Driver Ground Pin.", 24 VCC (power) "Main VCC Input for all Driver and Control Circuitry."

## LTC3706EGN#PBF
designator U?
Secondary-Side Synchronous Forward Controller with Polyphase Capability, 24-pin SOP (GN-24), -40 to 85 degC, Pb-Free; Manufacturer: Linear Technology; PartNumber: LTC3706EGN#PBF; Number of Outputs: 1; PackageReference: GN24; PackageDescription: 24-Pin Plastic SSOP , Body 8.5 x 3.9 mm, Pitch 0.635 mm; Supplier 1: Digi-Key; Supplier Part Number 1: LTC3706EGN#PBF-ND; RoHS: TRUE
footprint LT-GN-24_N (SOP, 24-Leads, Body 8.7x4mm, Pitch 0.635mm, IPC Medium Density)
footprint LT-GN-24_L (SOP, 24-Leads, Body 8.7x4mm, Pitch 0.635mm, IPC High Density)
footprint LT-GN-24_M (SOP, 24-Leads, Body 8.7x4mm, Pitch 0.635mm, IPC Low Density)
pins: 1 SG (out) "Gate Drive for the “Synchronous” MOSFET.", 2 FG (out) "Gate Drive for the “Forward” MOSFET.", 3 PGOOD (oc) "Open-Drain Power Good Output. The FB pin is monitored to ensure that the output is in regulation. When the output is not in regulation, the PGOOD pin is pulled low.", 4 MODE (in) "Tie to either GND or VCC to set the maximum duty cycle at either 50% or 75% respectively. Tie to ground through either a 200k or 100k resistor (50% or 75% maximum duty cycle) to disable pulse encoding. In this mode, normal (See Datasheet)", 5 PHASE (in) "Control Input to the Phase Selector. This pin determines the phasing of the controller CLK relative to the synchronizing signal at the FS/SYNC pin.", 6 FB (in) "The Inverting Input of the Main Loop Error Amplifier.", 7 ITH "The Output of the Main Loop Error Amplifier. Place compensation components between the ITH pin and GND.", 8 RUN/SS (in) "Combination Run Control and Soft-Start Inputs. A capacitor to ground sets the ramp time of the output voltage. Holding this pin below 0.4V causes the IC to shut down all internal circuitry.", 9 VSOUT (out) "VSOUT is the output of a precision, unity-gain differential amplifier. Tie VS+ and  VS- to the output of the main DC/DC converter to achieve true remote differential sensing. This allows DCR error effects to be minimized.", 10 VS+ (in) "VSOUT is the output of a precision, unity-gain differential amplifier. Tie VS+ and  VS- to the output of the main DC/DC converter to achieve true remote differential sensing. This allows DCR error effects to be minimized.", 11 VS- (in) "VSOUT is the output of a precision, unity-gain differential amplifier. Tie VS+ and  VS- to the output of the main DC/DC converter to achieve true remote differential sensing. This allows DCR error effects to be minimized.", 12 GND (power) "Signal Ground.", 13 FS/SYNC (in) "Combination Frequency Set and SYNC pin. Tie to GND or VCC to run at 200kHz and 300kHz respectively. Place a single resistor to ground at this pin to set the frequency between 100kHz and 500kHz. To synchronize, drive this pin (See Datasheet)", 14 SLP (in) "Slope Compensation Input. Place a single resistor to ground to set the desired amount of slope compensation.", 15 IS- (in) "Negative Input to the Current Sense Circuit. When using current sense transformers, this pin may be tied to VCC for single-ended sensing with a 1.28V maximum current trip level.", 16 IS+ (in) "Positive Input to the Current Sense Circuit. Connect to the positive end of a current sense resistor or to the output of a current sense transformer.", 17 REGSD (in) "This pin is used to prevent overheating of the external linear regulator pass device that generates the VCC supply voltage from the VIN voltage. A current proportional to the voltage across the external pass device flows out (See Datasheet)", 18 NDRV (out) "Drive Output for the External Pass Device of the VCC Linear Regulator. Connect to the base (NPN) or gate (NMOS) of an external N-type device.", 19 VIN (power) "Connect to a higher voltage bias supply, typically the output of a peak detected bias winding. When not used, tie together with the VCC and NDRV pins.", 20 SW "Connect to the drain of the “synchronous” MOSFET. This input is used for adaptive shoot-through prevention and leading edge blanking.", 21 PT- (out) "Pulse Transformer Driver Outputs. For most applications, these connect to a pulse transformer (with a series DC blocking capacitor). The PWM information is multiplexed together with DC power and sent through a single pulse (See Datasheet)", 22 PT+ (out) "Pulse Transformer Driver Outputs. For most applications, these connect to a pulse transformer (with a series DC blocking capacitor). The PWM information is multiplexed together with DC power and sent through a single pulse (See Datasheet)", 23 PGND (power) "Gate Driver Ground Pin.", 24 VCC (power) "Main VCC Input for all Driver and Control Circuitry."

## LTC3706EGN#TR
designator U?
Secondary-Side Synchronous Forward Controller with Polyphase Capability, 24-pin SOP (GN-24), -40 to 85 degC, Tape and Reel; Manufacturer: Linear Technology; PartNumber: LTC3706EGN#TR; Number of Outputs: 1; PackageReference: GN24; PackageDescription: 24-Pin Plastic SSOP , Body 8.5 x 3.9 mm, Pitch 0.635 mm; RoHS: FALSE
footprint LT-GN-24_N (SOP, 24-Leads, Body 8.7x4mm, Pitch 0.635mm, IPC Medium Density)
footprint LT-GN-24_L (SOP, 24-Leads, Body 8.7x4mm, Pitch 0.635mm, IPC High Density)
footprint LT-GN-24_M (SOP, 24-Leads, Body 8.7x4mm, Pitch 0.635mm, IPC Low Density)
pins: 1 SG (out) "Gate Drive for the “Synchronous” MOSFET.", 2 FG (out) "Gate Drive for the “Forward” MOSFET.", 3 PGOOD (oc) "Open-Drain Power Good Output. The FB pin is monitored to ensure that the output is in regulation. When the output is not in regulation, the PGOOD pin is pulled low.", 4 MODE (in) "Tie to either GND or VCC to set the maximum duty cycle at either 50% or 75% respectively. Tie to ground through either a 200k or 100k resistor (50% or 75% maximum duty cycle) to disable pulse encoding. In this mode, normal (See Datasheet)", 5 PHASE (in) "Control Input to the Phase Selector. This pin determines the phasing of the controller CLK relative to the synchronizing signal at the FS/SYNC pin.", 6 FB (in) "The Inverting Input of the Main Loop Error Amplifier.", 7 ITH "The Output of the Main Loop Error Amplifier. Place compensation components between the ITH pin and GND.", 8 RUN/SS (in) "Combination Run Control and Soft-Start Inputs. A capacitor to ground sets the ramp time of the output voltage. Holding this pin below 0.4V causes the IC to shut down all internal circuitry.", 9 VSOUT (out) "VSOUT is the output of a precision, unity-gain differential amplifier. Tie VS+ and  VS- to the output of the main DC/DC converter to achieve true remote differential sensing. This allows DCR error effects to be minimized.", 10 VS+ (in) "VSOUT is the output of a precision, unity-gain differential amplifier. Tie VS+ and  VS- to the output of the main DC/DC converter to achieve true remote differential sensing. This allows DCR error effects to be minimized.", 11 VS- (in) "VSOUT is the output of a precision, unity-gain differential amplifier. Tie VS+ and  VS- to the output of the main DC/DC converter to achieve true remote differential sensing. This allows DCR error effects to be minimized.", 12 GND (power) "Signal Ground.", 13 FS/SYNC (in) "Combination Frequency Set and SYNC pin. Tie to GND or VCC to run at 200kHz and 300kHz respectively. Place a single resistor to ground at this pin to set the frequency between 100kHz and 500kHz. To synchronize, drive this pin (See Datasheet)", 14 SLP (in) "Slope Compensation Input. Place a single resistor to ground to set the desired amount of slope compensation.", 15 IS- (in) "Negative Input to the Current Sense Circuit. When using current sense transformers, this pin may be tied to VCC for single-ended sensing with a 1.28V maximum current trip level.", 16 IS+ (in) "Positive Input to the Current Sense Circuit. Connect to the positive end of a current sense resistor or to the output of a current sense transformer.", 17 REGSD (in) "This pin is used to prevent overheating of the external linear regulator pass device that generates the VCC supply voltage from the VIN voltage. A current proportional to the voltage across the external pass device flows out (See Datasheet)", 18 NDRV (out) "Drive Output for the External Pass Device of the VCC Linear Regulator. Connect to the base (NPN) or gate (NMOS) of an external N-type device.", 19 VIN (power) "Connect to a higher voltage bias supply, typically the output of a peak detected bias winding. When not used, tie together with the VCC and NDRV pins.", 20 SW "Connect to the drain of the “synchronous” MOSFET. This input is used for adaptive shoot-through prevention and leading edge blanking.", 21 PT- (out) "Pulse Transformer Driver Outputs. For most applications, these connect to a pulse transformer (with a series DC blocking capacitor). The PWM information is multiplexed together with DC power and sent through a single pulse (See Datasheet)", 22 PT+ (out) "Pulse Transformer Driver Outputs. For most applications, these connect to a pulse transformer (with a series DC blocking capacitor). The PWM information is multiplexed together with DC power and sent through a single pulse (See Datasheet)", 23 PGND (power) "Gate Driver Ground Pin.", 24 VCC (power) "Main VCC Input for all Driver and Control Circuitry."